# Altium schematic symbol library Schlib1.SchLib: 13 symbols
Pins are listed as number, name and electrical type; pins without a type are passive.

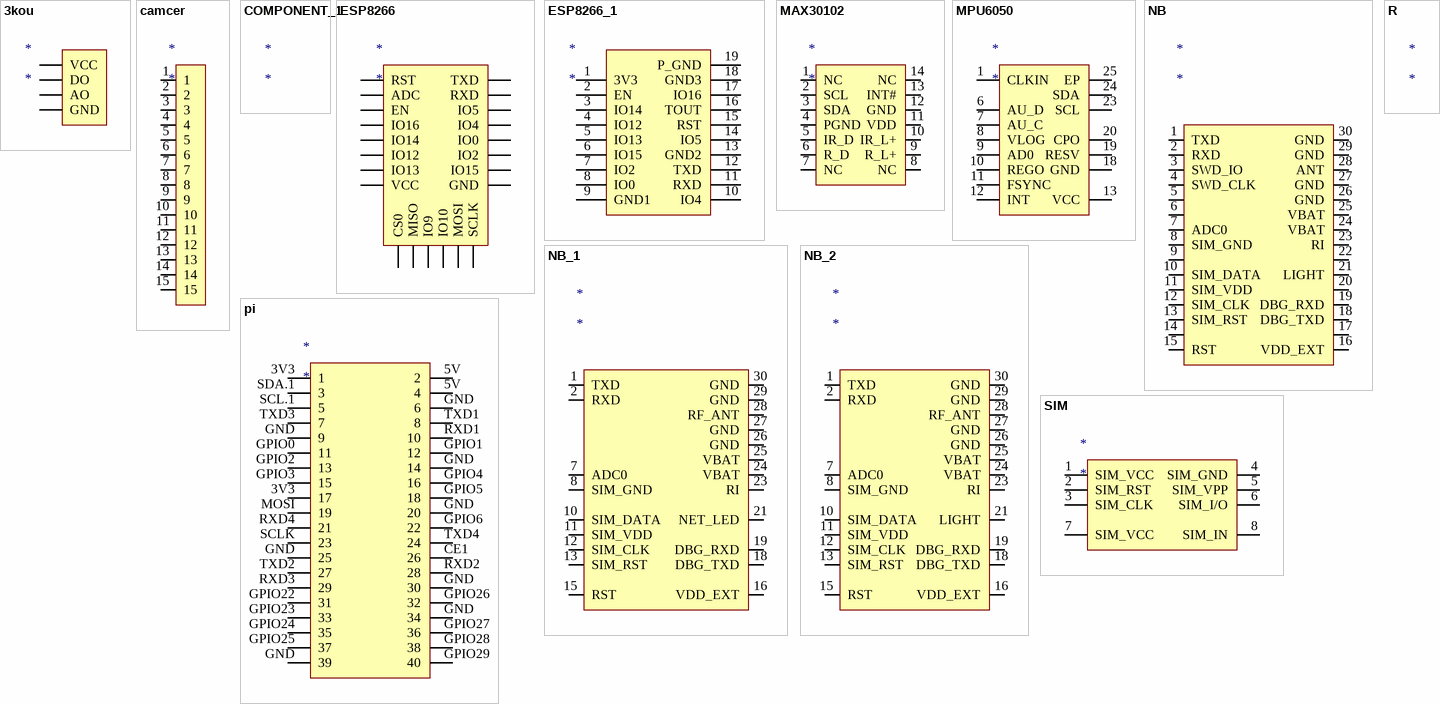
[diagram p0: symbols 3kou to SIM]

## 3kou
designator *
pins: 44 GND, 45 AO, 45 DO, 45 VCC

## camcer
designator *
pins: 1, 2, 3, 4, 5, 6, 7, 8, 9, 10, 11, 12, 13, 14, 15

## COMPONENT_1
designator *

## ESP8266
designator *
pins: 34 RST, 35 ADC, 36 EN, 37 IO16, 38 IO14, 39 IO12, 40 IO13, 41 VCC, 42 CS0, 43 MISO, 44 IO9, 45 IO10, 46 MOSI, 47 SCLK, 48 TXD, 49 RXD, 50 IO5, 51 IO4, 52 IO0, 53 IO2, 54 IO15, 55 GND

## ESP8266_1
designator *
pins: 1 3V3, 2 EN, 3 IO14, 4 IO12, 5 IO13, 6 IO15, 7 IO2, 8 IO0, 9 GND1, 10 IO4, 11 RXD, 12 TXD, 13 GND2, 14 IO5, 15 RST, 16 TOUT, 17 IO16, 18 GND3, 19 P_GND

## MAX30102
designator *
pins: 1 NC, 2 SCL, 3 SDA, 4 PGND, 5 IR_D, 6 R_D, 7 NC, 8 NC, 9 R_L+, 10 IR_L+, 11 VDD, 12 GND, 13 INT#, 14 NC

## MPU6050
designator *
pins: 1 CLKIN, 6 AU_D, 7 AU_C, 8 VLOG, 9 AD0, 10 REGO, 11 FSYNC, 12 INT, 13 VCC, 18 GND, 19 RESV, 20 CPO, 23 SCL, 24 SDA, 25 EP

## NB
designator *
pins: 1 TXD, 2 RXD, 3 SWD_IO, 4 SWD_CLK, 5 41, 6 42, 7 ADC0, 8 SIM_GND, 9 45, 10 SIM_DATA, 11 SIM_VDD, 12 SIM_CLK, 13 SIM_RST, 14, 15 RST, 16 VDD_EXT, 17, 18 DBG_TXD, 19 DBG_RXD, 20, 21 LIGHT, 22, 23 RI, 24 VBAT, 25 VBAT, 26 GND, 27 GND, 28 ANT, 29 GND, 30 GND

## NB_1
designator *
pins: 1 TXD, 2 RXD, 7 ADC0, 8 SIM_GND, 10 SIM_DATA, 11 SIM_VDD, 12 SIM_CLK, 13 SIM_RST, 15 RST, 16 VDD_EXT, 18 DBG_TXD, 19 DBG_RXD, 21 NET_LED, 23 RI, 24 VBAT, 25 VBAT, 26 GND, 27 GND, 28 RF_ANT, 29 GND, 30 GND

## NB_2
designator *
pins: 1 TXD, 2 RXD, 7 ADC0, 8 SIM_GND, 10 SIM_DATA, 11 SIM_VDD, 12 SIM_CLK, 13 SIM_RST, 15 RST, 16 VDD_EXT, 18 DBG_TXD, 19 DBG_RXD, 21 LIGHT, 23 RI, 24 VBAT, 25 VBAT, 26 GND, 27 GND, 28 RF_ANT, 29 GND, 30 GND

## pi
designator *
pins: 3V3 1, 3V3 17, 5V 2, 5V 4, CE1 26, GND 6, GND 9, GND 14, GND 20, GND 25, GND 30, GND 34, GND 39, GPIO0 11, GPIO1 12, GPIO2 13, GPIO3 15, GPIO4 16, GPIO5 18, GPIO6 22, GPIO22 31, GPIO23 33, GPIO24 35, GPIO25 37, GPIO26 32, GPIO27 36, GPIO28 38, GPIO29 40, MOSI 19, RXD1 10, RXD2 28, RXD3 29, RXD4 21, SCL.1 5, SCLK 23, SDA.1 3, TXD1 8, TXD2 27, TXD3 7, TXD4 24

## R
designator *

## SIM
designator *
pins: 1 SIM_VCC, 2 SIM_RST, 3 SIM_CLK, 4 SIM_GND, 5 SIM_VPP, 6 SIM_I/O, 7 SIM_VCC, 8 SIM_IN